# Altium footprint library BGA12N40P3X4_128X202X60N.PcbLib: 1 footprints
Each footprint in its own frame and in the unit in brackets; x right, y up, seen from the top. Pads: shape width x height; smd on the part's side, far side on the other; paste and mask are expansions set on the pad; w line width, h text height; cw(c..) or ccw(c..) is an arc to the next point about the centre after c.
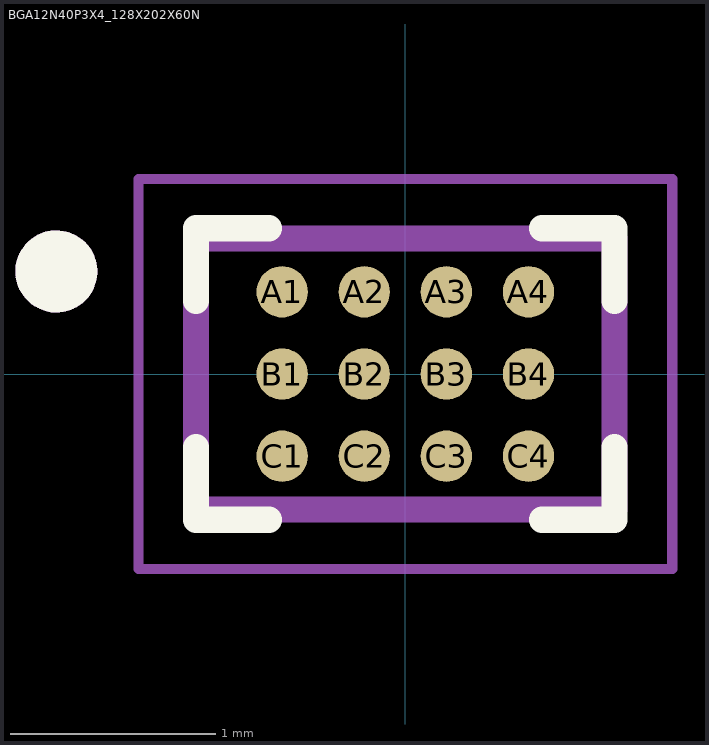
[diagram p0: the footprint, top view; thin cyan lines are the x and y axes]

## BGA12N40P3X4_128X202X60N [mm]
pads (12):
  round 0.25 smd: A1(-0.6,0.4) A2(-0.2,0.4) A3(0.2,0.4) A4(0.6,0.4) B1(-0.6,0) B2(-0.2,0) B3(0.2,0) B4(0.6,0) C1(-0.6,-0.4) C2(-0.2,-0.4) C3(0.2,-0.4) C4(0.6,-0.4)
Top Overlay:
  circle w0.2: c-1.7,0.5 r0.1
  lines w0.127: -1.02,-0.355 -1.02,-0.71 -0.665,-0.71 ; -1.02,0.355 -1.02,0.71 -0.665,0.71 ; 0.665,-0.71 1.02,-0.71 1.02,-0.355 ; 0.665,0.71 1.02,0.71 1.02,0.355
Top Solder:
  drawing of 12 lines, arcs and shapes, not listed
Mechanical 1:
  circle w0.2: c-1.7,0.5 r0.1
  lines w0.127: -1.02,-0.66 -1.02,0.66 1.02,0.66 1.02,-0.66 -1.02,-0.66
Mechanical 4:
  lines w0.05: -1.3,-0.95 1.3,-0.95 1.3,0.95 -1.3,0.95 -1.3,-0.95